# Altium schematic symbol library misc.SchLib: 2 symbols
Pins are listed as number, name and electrical type; pins without a type are passive.

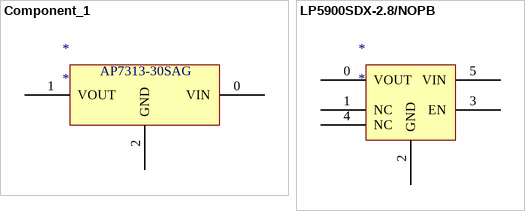
[diagram p0: symbols Component_1 to LP5900SDX-2.8/NOPB]

## Component_1
designator *
pins: 0 VIN, 1 VOUT, 2 GND
text: AP7313-30SAG

## LP5900SDX-2.8/NOPB
designator *
pins: 0 VOUT  , 1 NC, 2 GND, 3 EN, 4 NC, 5 VIN